# Altium schematic symbol library MegaP_schlib.SchLib: 6 symbols
Pins are listed as number, name and electrical type; pins without a type are passive.

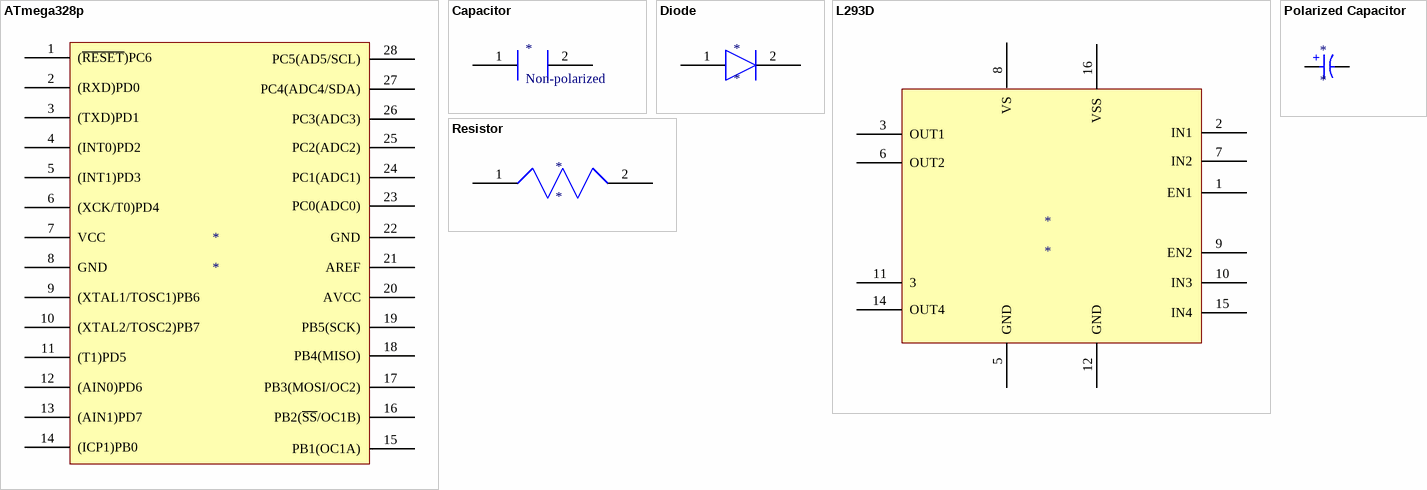
[diagram p0: symbols ATmega328p to Resistor]

## ATmega328p
designator *
footprint DIP787W46P254L3467H508Q28
pins: 1 (~{RESET})PC6, 2 (RXD)PD0, 3 (TXD)PD1, 4 (INT0)PD2, 5 (INT1)PD3, 6 (XCK/T0)PD4, 7 VCC, 8 GND, 9 (XTAL1/TOSC1)PB6, 10 (XTAL2/TOSC2)PB7, 11 (T1)PD5, 12 (AIN0)PD6, 13 (AIN1)PD7, 14 (ICP1)PB0, 15 PB1(OC1A), 16 PB2(~{SS}/OC1B), 17 PB3(MOSI/OC2), 18 PB4(MISO), 19 PB5(SCK), 20 AVCC, 21 AREF, 22 GND, 23 PC0(ADC0), 24 PC1(ADC1), 25 PC2(ADC2), 26 PC3(ADC3), 27 PC4(ADC4/SDA), 28 PC5(AD5/SCL)

## Capacitor
designator *, comment Non-polarized
footprint CAP_DE1B3RA471KA4BN01F
pins: 1, 2

## Diode
designator *
footprint DIOAD753W49L380D172B
pins: 1, 2

## L293D
designator *
footprint L293D
pins: 1 EN1, 2 IN1, 3 OUT1, 5 GND, 6 OUT2, 7 IN2, 8 VS, 9 EN2, 10 IN3, 11 3, 12 GND, 14 OUT4, 15 IN4, 16 VSS

## Polarized Capacitor
designator *
footprint WCAP-ATET_D5H11 (Aluminum Electrolytic Capacitors, 5x11mm)
pins: 1, 2
text: +

## Resistor
designator *
footprint RESAD1100W55L680D260
pins: 1, 2